# EAGLE library part AT90PWM3B (library my-at90pwm3)
AT90PWM3B, SO32
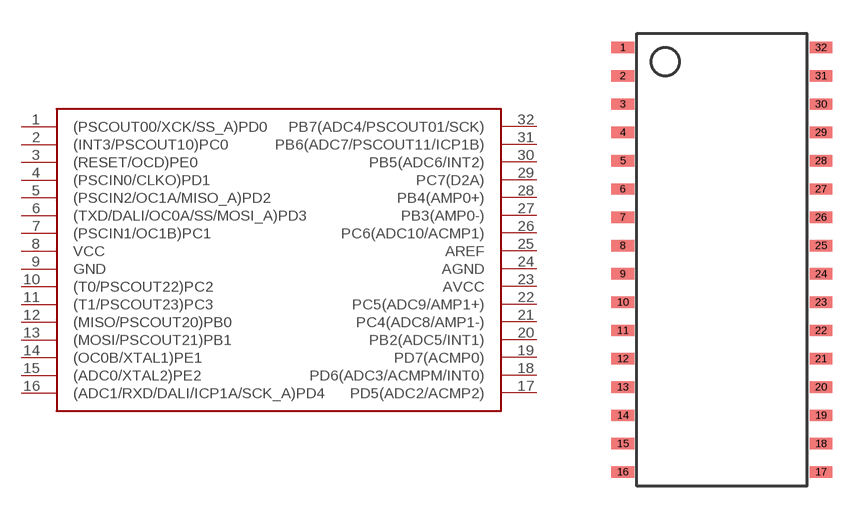
[diagram p0: symbol with the pads of SO32; footprint SO32]

Designator prefix -

## AT90PWM3B-SO32  [SO32]
1  (PSCOUT00/XCK/SS_A)PD0
2  (INT3/PSCOUT10)PC0
3  (RESET/OCD)PE0
4  (PSCIN0/CLKO)PD1
5  (PSCIN2/OC1A/MISO_A)PD2
6  (TXD/DALI/OC0A/SS/MOSI_A)PD3
7  (PSCIN1/OC1B)PC1
8  VCC
9  GND
10  (T0/PSCOUT22)PC2
11  (T1/PSCOUT23)PC3
12  (MISO/PSCOUT20)PB0
13  (MOSI/PSCOUT21)PB1
14  (OC0B/XTAL1)PE1
15  (ADC0/XTAL2)PE2
16  (ADC1/RXD/DALI/ICP1A/SCK_A)PD4
17  PD5(ADC2/ACMP2)
18  PD6(ADC3/ACMPM/INT0)
19  PD7(ACMP0)
20  PB2(ADC5/INT1)
21  PC4(ADC8/AMP1-)
22  PC5(ADC9/AMP1+)
23  AVCC
24  AGND  pwr
25  AREF  pwr
26  PC6(ADC10/ACMP1)
27  PB3(AMP0-)
28  PB4(AMP0+)
29  PC7(D2A)
30  PB5(ADC6/INT2)
31  PB6(ADC7/PSCOUT11/ICP1B)
32  PB7(ADC4/PSCOUT01/SCK)

## Footprint SO32 (pad centres in mm)
SO32
smd 1.016 x 0.508: 1 -4.445,9.525; 2 -4.445,8.255; 3 -4.445,6.985; 4 -4.445,5.715; 5 -4.445,4.445; 6 -4.445,3.175; 7 -4.445,1.905; 8 -4.445,0.635; 9 -4.445,-0.635; 10 -4.445,-1.905; 11 -4.445,-3.175; 12 -4.445,-4.445; 13 -4.445,-5.715; 14 -4.445,-6.985; 15 -4.445,-8.255; 16 -4.445,-9.525; 17 4.445,-9.525; 18 4.445,-8.255; 19 4.445,-6.985; 20 4.445,-5.715; 21 4.445,-4.445; 22 4.445,-3.175; 23 4.445,-1.905; 24 4.445,-0.635; 25 4.445,0.635; 26 4.445,1.905; 27 4.445,3.175; 28 4.445,4.445; 29 4.445,5.715; 30 4.445,6.985; 31 4.445,8.255; 32 4.445,9.525